# Altium schematic symbol library GRM32ER61A107ME20K.SchLib: 1 symbol
Pins are listed as number, name and electrical type; pins without a type are passive.

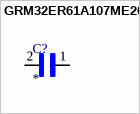
[diagram p0: symbol GRM32ER61A107ME20K]

## GRM32ER61A107ME20K
designator C?
100 ÂµF Â±20% 10V Ceramic Capacitor X5R 1210 (3225 Metric); MF: Murata Electronics; MP: GRM32ER61A107ME20K; Digi-Key_Part_Number: 490-14681-2-ND; Check_prices: https://www.snapeda.com/parts/GRM32ER61A107ME20K/Murata+Electronics+North+America/view-part/?ref=eda; Value: *; Purchase-URL: https://pricing.snapeda.com/search/part/GRM32ER61A107ME20K/?ref=eda; SnapEDA_Link: https://www.snapeda.com/parts/GRM32ER61A107ME20K/Murata+Electronics+North+America/view-part/?ref=snap; Package: 3225 Murata
footprint CAPC3225X270N
pins: 1, 2